# Altium integrated library STM32F103ZET6.IntLib: 1 symbol
Pins are listed as number, name and electrical type; pins without a type are passive.

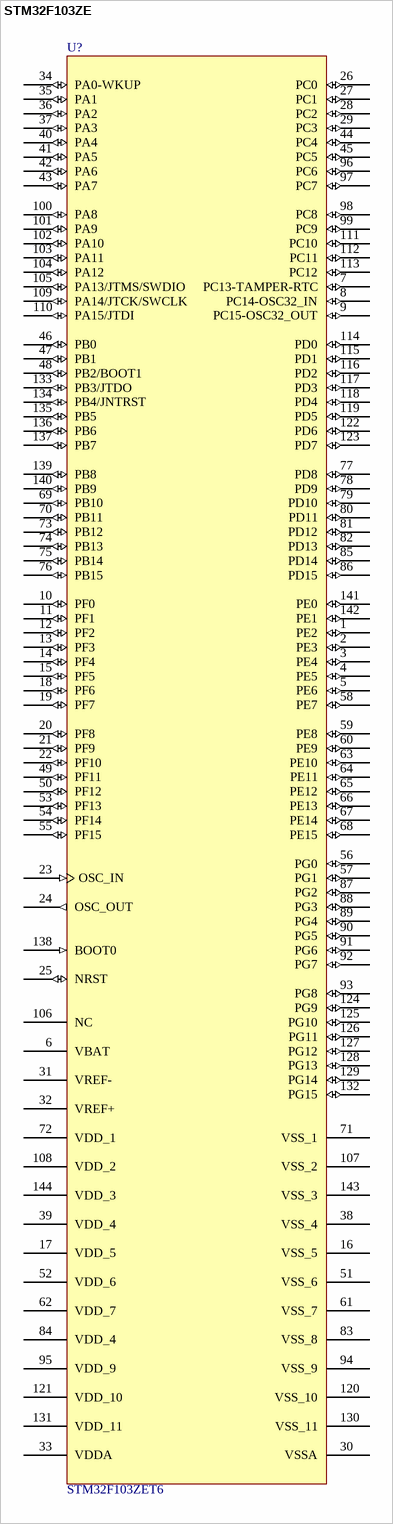
[diagram p0: symbol STM32F103ZE]

## STM32F103ZE
designator U?, comment STM32F103ZET6
PDF: http://www.st.com/web/en/resource/technical/document/datasheet/CD00191185.pdf; PRICE: 11.48000; BUY_LINK: http://www.digikey.com/product-detail/en/STM32F103ZET6/497-6442-ND/1852092; ID: STM32F103ZET6
footprint lqfp144
pins: 1 PE2 (io), 2 PE3 (io), 3 PE4 (io), 4 PE5 (io), 5 PE6 (io), 6 VBAT (power), 7 PC13-TAMPER-RTC (io), 8 PC14-OSC32_IN (io), 9 PC15-OSC32_OUT (io), 10 PF0 (io), 11 PF1 (io), 12 PF2 (io), 13 PF3 (io), 14 PF4 (io), 15 PF5 (io), 16 VSS_5 (power), 17 VDD_5 (power), 18 PF6 (io), 19 PF7 (io), 20 PF8 (io), 21 PF9 (io), 22 PF10 (io), 23 OSC_IN (in), 24 OSC_OUT (out), 25 NRST (io), 26 PC0 (io), 27 PC1 (io), 28 PC2 (io), 29 PC3 (io), 30 VSSA (power), 31 VREF- (power), 32 VREF+ (power), 33 VDDA (power), 34 PA0-WKUP (io), 35 PA1 (io), 36 PA2 (io), 37 PA3 (io), 38 VSS_4 (power), 39 VDD_4 (power), 40 PA4 (io), 41 PA5 (io), 42 PA6 (io), 43 PA7 (io), 44 PC4 (io), 45 PC5 (io), 46 PB0 (io), 47 PB1 (io), 48 PB2/BOOT1 (io), 49 PF11 (io), 50 PF12 (io), 51 VSS_6 (power), 52 VDD_6 (power), 53 PF13 (io), 54 PF14 (io), 55 PF15 (io), 56 PG0 (io), 57 PG1 (io), 58 PE7 (io), 59 PE8 (io), 60 PE9 (io), 61 VSS_7 (power), 62 VDD_7 (power), 63 PE10 (io), 64 PE11 (io), 65 PE12 (io), 66 PE13 (io), 67 PE14 (io), 68 PE15 (io), 69 PB10 (io), 70 PB11 (io), 71 VSS_1 (power), 72 VDD_1 (power), 73 PB12 (io), 74 PB13 (io), 75 PB14 (io), 76 PB15 (io), 77 PD8 (io), 78 PD9 (io), 79 PD10 (io), 80 PD11 (io), 81 PD12 (io), 82 PD13 (io), 83 VSS_8 (power), 84 VDD_4 (power), 85 PD14 (io), 86 PD15 (io), 87 PG2 (io), 88 PG3 (io), 89 PG4 (io), 90 PG5 (io), 91 PG6 (io), 92 PG7 (io), 93 PG8 (io), 94 VSS_9 (power), 95 VDD_9 (power), 96 PC6 (io), 97 PC7 (io), 98 PC8 (io), 99 PC9 (io), 100 PA8 (io), 101 PA9 (io), 102 PA10 (io), 103 PA11 (io), 104 PA12 (io), 105 PA13/JTMS/SWDIO (io), 106 NC, 107 VSS_2 (power), 108 VDD_2 (power), 109 PA14/JTCK/SWCLK (io), 110 PA15/JTDI (io), 111 PC10 (io), 112 PC11 (io), 113 PC12 (io), 114 PD0 (io), 115 PD1 (io), 116 PD2 (io), 117 PD3 (io), 118 PD4 (io), 119 PD5 (io), 120 VSS_10 (power), 121 VDD_10 (power), 122 PD6 (io), 123 PD7 (io), 124 PG9 (io), 125 PG10 (io), 126 PG11 (io), 127 PG12 (io), 128 PG13 (io), 129 PG14 (io), 130 VSS_11 (power), 131 VDD_11 (power), 132 PG15 (io), 133 PB3/JTDO (io), 134 PB4/JNTRST (io), 135 PB5 (io), 136 PB6 (io), 137 PB7 (io), 138 BOOT0 (in), 139 PB8 (io), 140 PB9 (io), 141 PE0 (io), 142 PE1 (io), 143 VSS_3 (power), 144 VDD_3 (power)